# Altium integrated library Oscillators.IntLib: 4 symbols
Pins are listed as number, name and electrical type; pins without a type are passive.

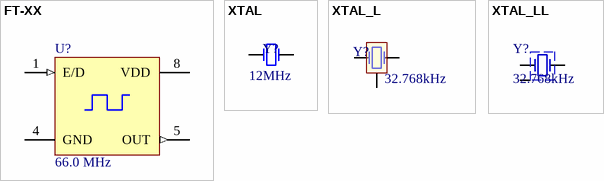
[diagram p0: symbols FT-XX to XTAL_LL]

## FT-XX
designator U?, comment 66.0 MHz
FT-XX
footprint FT-XX
pins: 1 E/D (in) "Low Disables Clock", 4 GND (power), 5 OUT (out) "Output", 8 VDD (power)

## XTAL
designator Y?  value 12MHz  (hidden comment: XTAL)
Crystal Oscillator; Published: 8-Jun-2000; LatestRevisionDate: 17-Jul-2002; LatestRevisionNote: Re-released for DXP Platform.; PackageReference: R38; Publisher: Altium Limited
footprint BCY-W2/D3.1 (Crystal, Thru-Hole; 2 Leads; Body 3.1 x 8.2 mm (Dia.xH))
simulation model XTAL (Spice Subcircuit)
footprint BCY-W2/D2.1 (Crystal, Thru-Hole; 2 Leads; Body 2.1 x 6.2 mm (Dia.xH))
footprint BCY-W2/D1.5 (Crystal, Thru-Hole; 2 Leads; Body 1.5 x 5.1 mm (Dia.xH))
footprint HC49U (Crystal, Thru-Hole; 2 Leads; Body 11 x 4.5 mm (WxH))
pins: 1 OSC1, 2 OSC2

## XTAL_L
designator Y?  value 32.768kHz  (hidden comment: XTAL_L)
Crystal Oscillator; Published: 8-Jun-2000; LatestRevisionDate: 17-Jul-2002; LatestRevisionNote: Re-released for DXP Platform.; PackageReference: R38; Publisher: Altium Limited
simulation model XTAL (Spice Subcircuit)
footprint BCY-W2/D2.1_L (Crystal, Thru-Hole; 2 Leads; Body 2.1 x 6.2 mm (Dia.xH))
footprint BCY-W2/D2.1x6.2_horizontal (Crystal, Thru-Hole; 2 Leads; Body 2.1 x 6.2 mm (Dia.xH) Horizontal)
footprint BCY-W2/D2.1x6.2_SMT_horizontal (Crystal, Thru-Hole; 2 Leads; Body 2.1 x 6.2 mm (Dia.xH) Horizontal)
pins: 0 GND, 1 OSC1, 2 OSC2

## XTAL_LL
designator Y?, comment 32.768kHz
Crystal Oscillator
footprint BCY-W2/D2.1x6.2_horizontal (Crystal, Thru-Hole; 2 Leads; Body 2.1 x 6.2 mm (Dia.xH) Horizontal)
footprint BCY-W2/D2.1x6.2_SMT_horizontal (Crystal, Thru-Hole; 2 Leads; Body 2.1 x 6.2 mm (Dia.xH) Horizontal)
footprint BCY-W2/D2.1_L (Crystal, Thru-Hole; 2 Leads; Body 2.1 x 6.2 mm (Dia.xH))
simulation model XTAL (Spice Subcircuit)
pins: 0, 1, 2